# EAGLE library part SENSEAIR-S8 (library SenseAir-S8)
Library component for the CO2 sensor "SenseAir S8" from SenseAir. !!!! NOTE !!! The component has to be fliped (mirror option) in order to use it. The layout has been designed from the bottom view. I do not guarantee the correct dimensions. The user should check them before using this library.
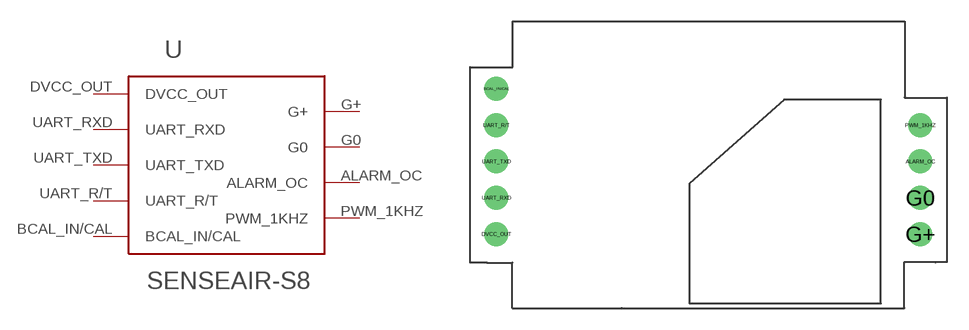
[diagram p0: symbol with the pads of S8; footprint S8]

Designator prefix -

## SENSEAIR-S8  [S8]
ALARM_OC  ALARM_OC
BCAL_IN/CAL  BCAL_IN/CAL
DVCC_OUT  DVCC_OUT
G0  G0
G+  G+
PWM_1KHZ  PWM_1KHZ
UART_R/T  UART_R/T
UART_RXD  UART_RXD
UART_TXD  UART_TXD

## Footprint S8 (pad centres in mm)
""
drill 1.12 pad 1.524: ALARM_OC -3.096,-10.668; BCAL_IN/CAL -32.766,-5.588; DVCC_OUT -32.766,-15.748; G0 -3.096,-13.208; G+ -3.096,-15.748; PWM_1KHZ -3.096,-8.128; UART_R/T -32.766,-8.128; UART_RXD -32.766,-13.208; UART_TXD -32.766,-10.668